# Altium footprint library RJ45_VERTICAL.PcbLib: 1 footprints
Each footprint in its own frame and in the unit in brackets; x right, y up, seen from the top. Pads: shape width x height; smd on the part's side, far side on the other; paste and mask are expansions set on the pad; w line width, h text height; cw(c..) or ccw(c..) is an arc to the next point about the centre after c.
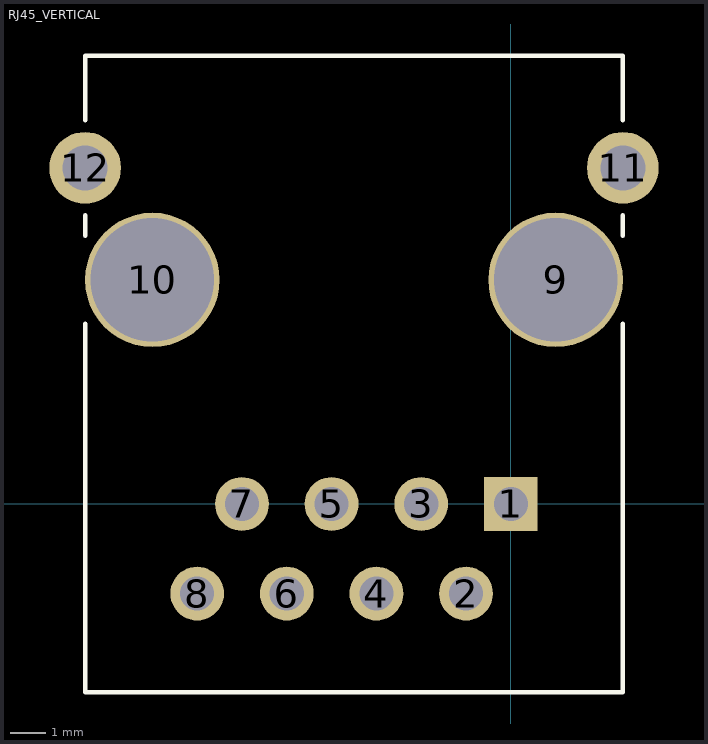
[diagram p0: the footprint, top view; thin cyan lines are the x and y axes]

## RJ45_VERTICAL [mil]
pads (12):
  rect 60x60 hole 38: 1(0,0)
  round 60 hole 38: 2(-50,-100) 3(-100,0) 4(-150,-100) 5(-200,0) 6(-250,-100) 7(-300,0) 8(-350,-100)
  round 150 hole 138 unplated: 9(50,250) 10(-400,250)
  round 80 hole 50: 11(125,375) 12(-475,375)
Top Overlay:
  lines w5: -475,201 -475,-210 125,-210 125,201 ; -475,299 -475,322 ; -475,428 -475,500 125,500 125,428 ; 125,299 125,322
3D body: height 641.73, standoff -129.92, extent -480,-133.02 130.24,489.02